# Altium footprint library LV-BMS.PcbLib: 24 footprints (part 2 of 2)
Each footprint in its own frame and in the unit in brackets; x right, y up, seen from the top. Pads: shape width x height; smd on the part's side, far side on the other; paste and mask are expansions set on the pad; w line width, h text height; cw(c..) or ccw(c..) is an arc to the next point about the centre after c.
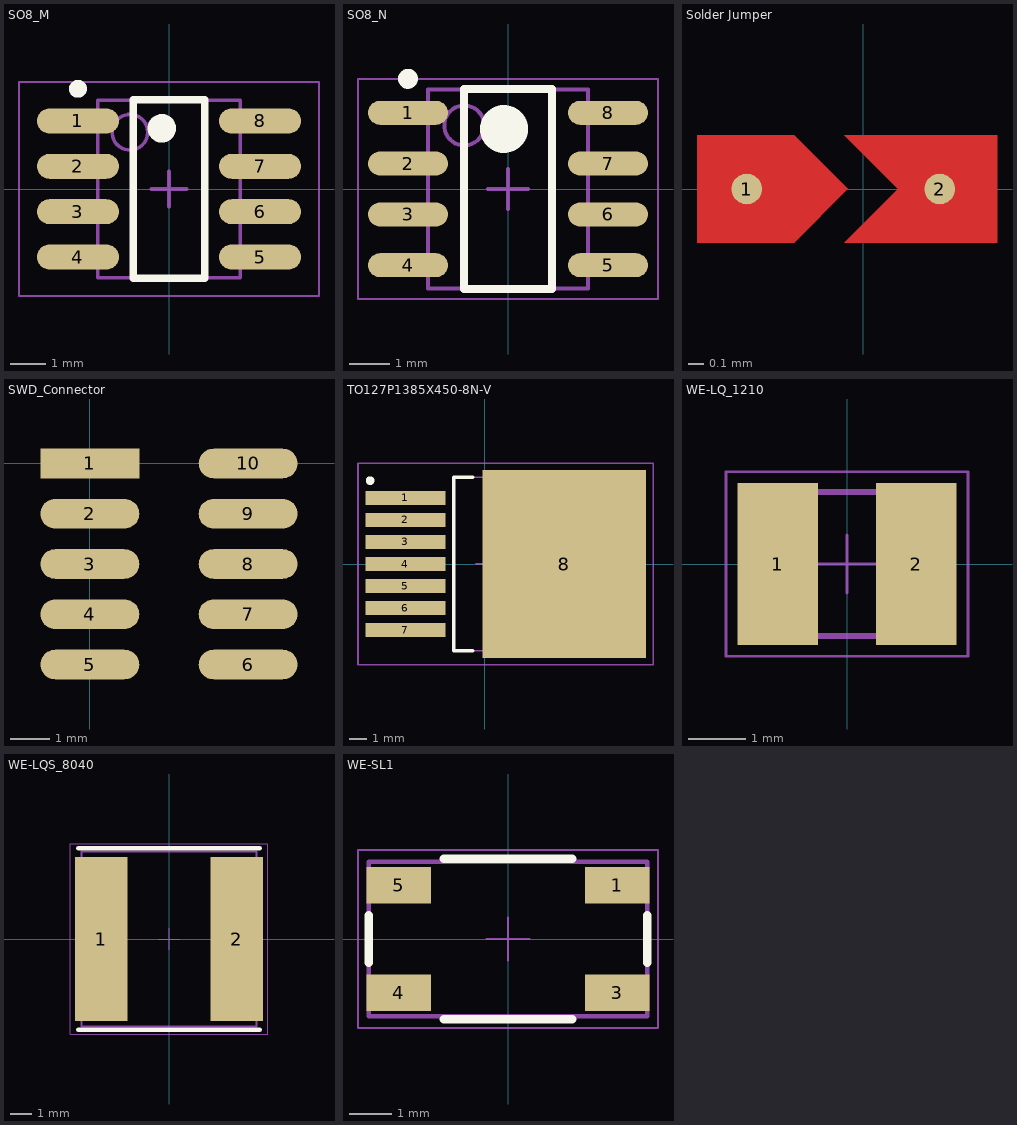
[diagram p1: the footprints below, top view; thin cyan lines are the x and y axes]

## SO8_M [mm] "SOIC, 8-Leads, Body 4.9x3.9mm, Pitch 1.27mm, IPC Low Density"
height 1.73
pads (8):
  oval 2.3x0.7 smd: 1(-2.55,1.905) 2(-2.55,0.635) 3(-2.55,-0.635) 4(-2.55,-1.905) 5(2.55,-1.905) 6(2.55,-0.635) 7(2.55,0.635) 8(2.55,1.905)
Top Overlay:
  circle w0.25: c-2.55,2.805 r0.125
  circle w0.4: c-0.2,1.7 r0.2
  lines w0.2: -1,-2.5 -1,2.5 1,2.5 1,-2.5 -1,-2.5
Mechanical 13:
  circle w0.1: c-1.095,1.59 r0.5
  lines w0.1: -1.995,-2.49 -1.995,2.49 1.995,2.49 1.995,-2.49 -1.995,-2.49
Mechanical 15:
  lines w0.05: -4.2,-3 -4.2,3 4.2,3 4.2,-3 -4.2,-3
  lines w0.1: -0.5,0 0.5,0 ; 0,-0.5 0,0.5
3D body: height 1.73, standoff 0.1, extent -1.995,-2.49 1.995,2.49

## SO8_N [mm] "SOIC, 8-Leads, Body 4.9x3.9mm, Pitch 1.27mm, IPC Medium Density"
height 1.73
pads (8):
  oval 2x0.6 smd: 1(-2.5,1.905) 2(-2.5,0.635) 3(-2.5,-0.635) 4(-2.5,-1.905) 5(2.5,-1.905) 6(2.5,-0.635) 7(2.5,0.635) 8(2.5,1.905)
Top Overlay:
  circle w0.25: c-2.5,2.755 r0.125
  circle w0.6: c-0.1,1.5 r0.3
  lines w0.2: -1.1,-2.5 -1.1,2.5 1.1,2.5 1.1,-2.5 -1.1,-2.5
Mechanical 13:
  circle w0.1: c-1.095,1.59 r0.5
  lines w0.1: -1.995,-2.49 -1.995,2.49 1.995,2.49 1.995,-2.49 -1.995,-2.49
Mechanical 15:
  lines w0.05: -3.75,-2.75 -3.75,2.75 3.75,2.75 3.75,-2.75 -3.75,-2.75
  lines w0.1: -0.5,0 0.5,0 ; 0,-0.5 0,0.5
3D body: height 1.73, standoff 0.1, extent -1.995,-2.49 1.995,2.49

## Solder Jumper [mm]
pads (2):
  round 0.2 smd: 1(-0.762,0) 2(0.5,0)
Top Layer:
  region: -1.087,0.35 -0.45,0.35 -0.1,0 -0.45,-0.35 -1.087,-0.35
  region: -0.125,0.35 0.875,0.35 0.875,-0.35 -0.125,-0.35 0.225,0

## SWD_Connector [mm] "M50-3600542"
pads (10):
  rect 2.5x0.75 smd: 1(0,0)
  oval 2.5x0.75 smd: 2(0,-1.27) 3(0,-2.54) 4(0,-3.81) 5(0,-5.08) 6(4,-5.08) 7(4,-3.81) 8(4,-2.54) 9(4,-1.27) 10(4,0)
3D body "m50-3600542_asm.stp": height 4.68, standoff 0, extent -0.85,-5.715 4.65,0.635

## TO127P1385X450-8N-V [mm] "TO,1.27mm pitch;7 pin,13.85mm L X 9.25mm W X 4.50mm H body"
height 4.5
pads (8):
  rect 4.6x0.8 smd paste+0 mask+0: 1(-4.575,3.81) 2(-4.575,2.54) 3(-4.575,1.27) 4(-4.575,0) 5(-4.575,-1.27) 6(-4.575,-2.54) 7(-4.575,-3.81)
  rect 9.4x10.8 smd paste+0 mask+0: 8(4.575,0)
Top Overlay:
  circle w0.25: c-6.6,4.8 r0.125
  lines w0.2: -0.7,-5 -1.8,-5 -1.8,5 -0.7,5
Mechanical 3:
  text ".DESIGNATOR" at 0,0 h1.2
Mechanical 13:
  lines w0.1: -1.8,-5 -1.8,5 7.45,5 7.45,-5 -1.8,-5
Mechanical 15:
  lines w0.1: -0.5,0 0.5,0 ; 0,-0.5 0,0.5 ; -7.3,-5.8 9.7,-5.8 9.7,5.8 -7.3,5.8 -7.3,-5.8
3D body "PG-TO220-7-4.stp": height 4.51, standoff 0, extent -5.725,-5 8.125,5

## WE-LQ_1210 [mm] "SMT Inductor, body 3.2x2.5mm"
height 2
pads (2):
  rect 1.4x2.8 smd: 1(-1.2,0) 2(1.2,0)
Mechanical 13:
  lines w0.1: -1.6,-1.25 1.6,-1.25 1.6,1.25 -1.6,1.25 -1.6,-1.25
Mechanical 15:
  lines w0.05: -0.5,0 0.5,0 ; 0,-0.5 0,0.5 ; -2.1,-1.6 -2.1,1.6 2.1,1.6 2.1,-1.6 -2.1,-1.6
3D body "7440320018.stp": height 1.99, standoff -0.01, extent -1.6,-1.25 1.6,1.25

## WE-LQS_8040 [mm] "SMD Power Inductor, 2-Leads, body 8x8mm"
height 4.2
pads (2):
  rect 2.4x7.5 smd: 1(-3.1,0) 2(3.1,0)
Top Overlay:
  lines w0.2: -4.15,-4.15 4.15,-4.15 ; -4.15,4.15 4.15,4.15
Mechanical 13:
  lines w0.1: -4,-4 -4,4 4,4 4,-4 -4,-4
Mechanical 15:
  lines w0.05: -0.5,0 0.5,0 ; 0,-0.5 0,0.5 ; -4.5,-4.35 4.5,-4.35 4.5,4.35 -4.5,4.35 -4.5,-4.35
3D body "LQS_8040.stp": height 4.2, standoff 0, extent -4,-4 4,4

## WE-SL1 [mm] "SMD Inductor, 4-Leads, Body 6.5x3.6mm"
height 1.65
pads (4):
  rect 1.5x0.85 smd: 1(2.55,1.25) 3(2.55,-1.25) 4(-2.55,-1.25) 5(-2.55,1.25)
Top Overlay:
  lines w0.2: -3.25,-0.55 -3.25,0.55 ; -1.5,-1.875 1.5,-1.875 ; -1.5,1.875 1.5,1.875 ; 3.25,-0.55 3.25,0.55
Mechanical 13:
  lines w0.1: -3.25,-1.8 -3.25,1.8 3.25,1.8 3.25,-1.8 -3.25,-1.8
Mechanical 15:
  lines w0.05: -0.5,0 0.5,0 ; 0,-0.5 0,0.5 ; -3.5,-2.075 3.5,-2.075 3.5,2.075 -3.5,2.075 -3.5,-2.075
3D body "744212xxx.stp": height 1.65, standoff -0.01, extent -2.6,-1.8 2.6,1.8